# Altium footprint library PCB - HEADERS - Samtec - FTR-110-51-S-D-06-TR.PcbLib: 1 footprints
Each footprint in its own frame and in the unit in brackets; x right, y up, seen from the top. Pads: shape width x height; smd on the part's side, far side on the other; paste and mask are expansions set on the pad; w line width, h text height; cw(c..) or ccw(c..) is an arc to the next point about the centre after c.
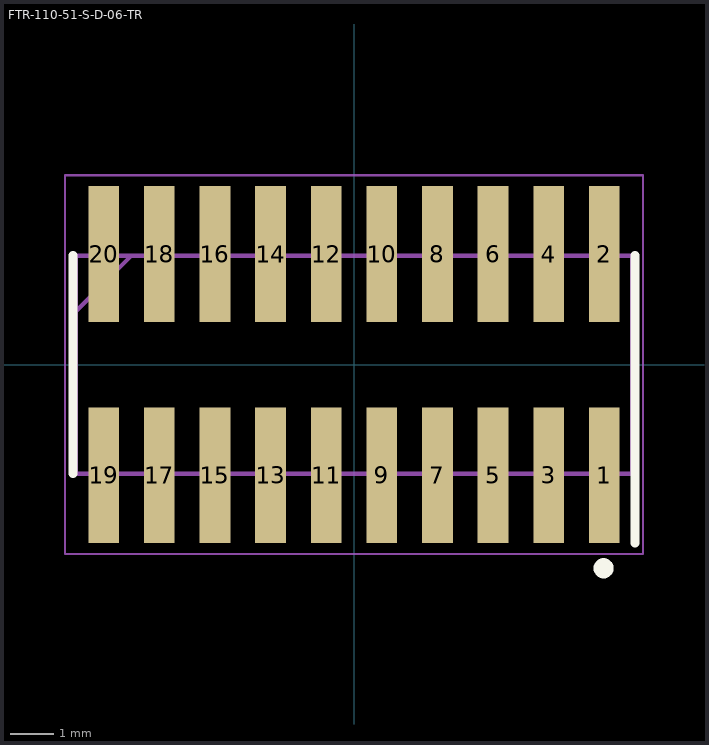
[diagram p0: the footprint, top view; thin cyan lines are the x and y axes]

## FTR-110-51-S-D-06-TR [mm]
pads (20):
  rect 0.7x3.1 smd: 1(5.715,-2.525) 2(5.715,2.525) 3(4.445,-2.525) 4(4.445,2.525) 5(3.175,-2.525) 6(3.175,2.525) 7(1.905,-2.525) 8(1.905,2.525) 9(0.635,-2.525) 10(0.635,2.525) 11(-0.635,-2.525) 12(-0.635,2.525) 13(-1.905,-2.525) 14(-1.905,2.525) 15(-3.175,-2.525) 16(-3.175,2.525) 17(-4.445,-2.525) 18(-4.445,2.525) 19(-5.715,-2.525) 20(-5.715,2.525)
Top Overlay:
  circle w0.254: c5.7,-4.65 r0.103
  lines w0.2: -6.415,-2.49 -6.415,2.49 ; 6.415,-4.075 6.415,2.49
Mechanical 13:
  lines w0.1: -6.35,1.22 -5.08,2.49 ; -6.35,-2.49 6.35,-2.49 6.35,2.49 -6.35,2.49 -6.35,-2.49
Mechanical 15:
  lines w0.05: -6.6,-4.325 6.6,-4.325 6.6,4.325 -6.6,4.325 -6.6,-4.325
3D body "FTR-110-51-S-D-06-TR.stp": height 8.67, standoff 0, extent -6.35,-3.76 6.35,3.76